# Altium schematic symbol library active.SchLib: 46 symbols
Pins are listed as number, name and electrical type; pins without a type are passive.

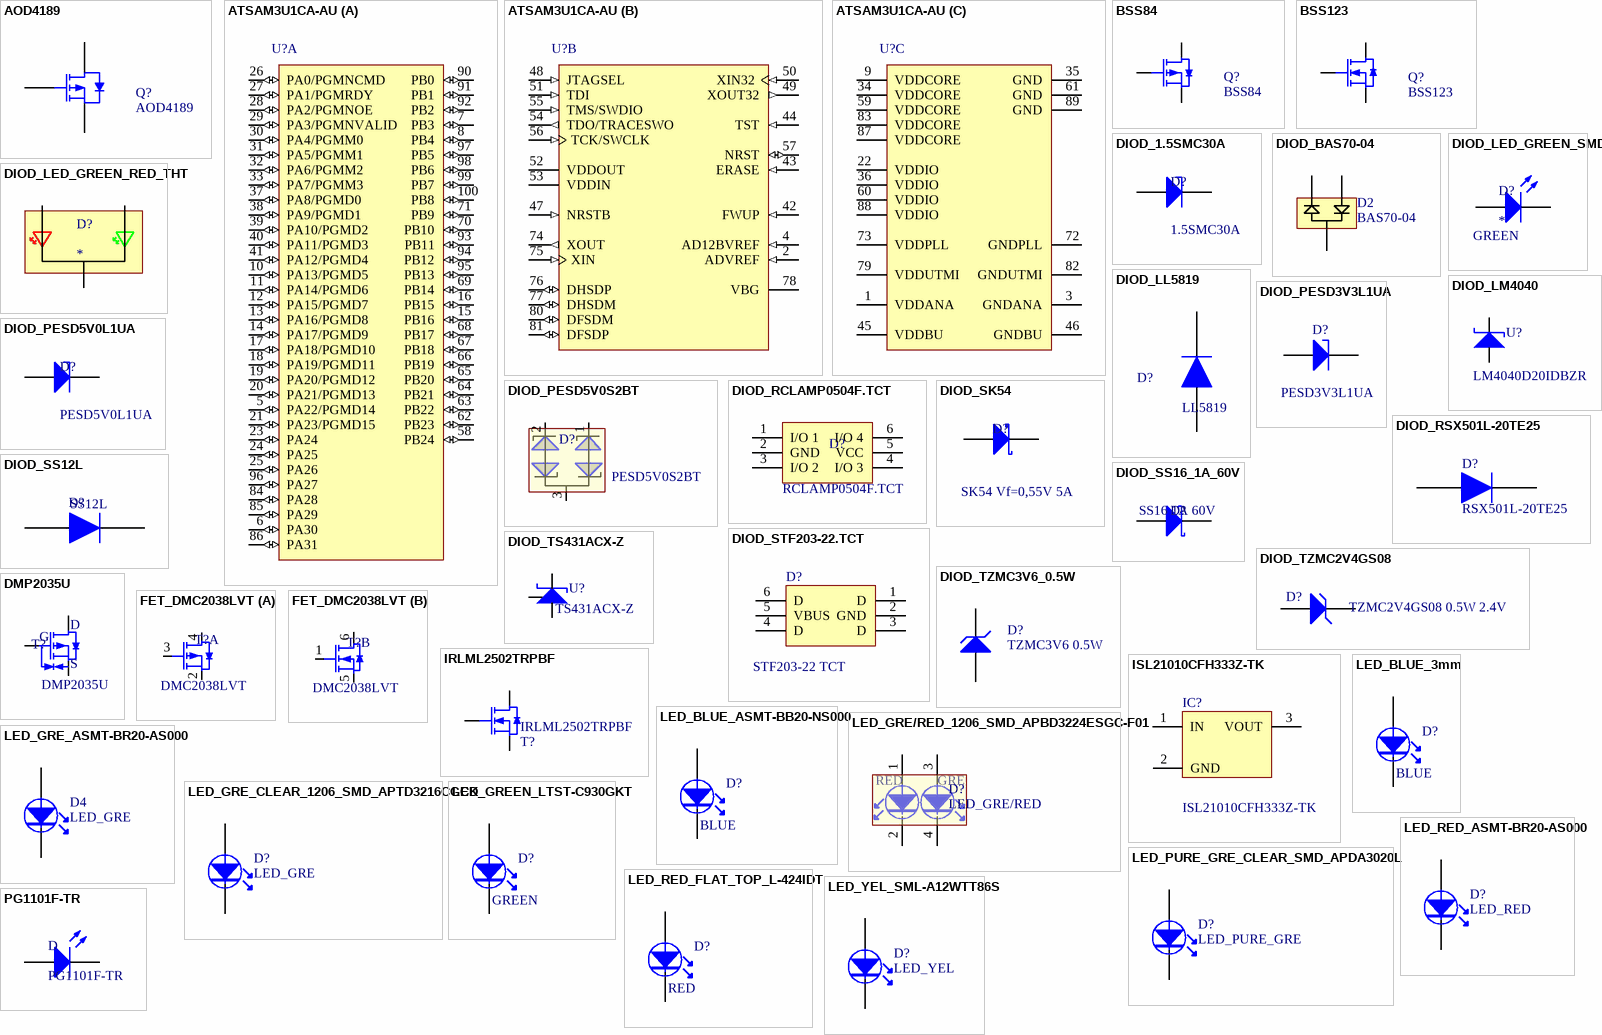
[diagram p0: symbols AOD4189 to PG1101F-TR]

## AOD4189
designator Q?
AOD4189 MOSFET P CH 40V 40A TO252; Order ID: 785-1351-1-ND; Distributor: Digikey; Price: 138; Value: AOD4189
footprint TO-252 (D-PAK/TO-252-AA; 3 Leads (1 Cropped); Body 10.1 (inc. leads) x 6.6 mm (LxW max))
pins: 1 G, 3 S, 4 D

## ATSAM3U1CA-AU
designator U?
AT91 ARM Cortex-M3 32-bit Microcontroller, 64KB Flash, 20KB SRAM, 57 User I/Os, 3USARTs, 100-Pin LQFP, Industrial Grade (-40°C to 85°C), Pb-Free; Published: 20-Sep-2010; DatasheetVersion: revC, Apr-2010; PackageVersion: Apr-2006; PackageReference: LQFP100; Publisher: Altium Limited; PackageDescription: 100-Pin Thin Quad Flat Pack 0.5 mm Pitch; Supplier 1: Digi-Key; Supplier Part Number 1: ATSAM3U1CA-AU-ND; Supplier 2: Mouser; Supplier Part Number 2: 556-ATSAM3U1CA-AU; Code_JEDEC: MS-026-BED; ComponentLink1Description: Manufacturer Link; ComponentLink1URL: http://www.atmel.com/products/AT91/default.asp?; ComponentLink2Description: SAM3U Series Datasheet; ComponentLink2URL: http://www.atmel.com/dyn/resources/prod_documents/doc6430.pdf; ComponentLink3Description: SAM3U Series Summary; ComponentLink3URL: http://www.atmel.com/dyn/resources/prod_documents/6430s.pdf; ComponentLink4Description: Atmel.com Home; ComponentLink4URL: http://www.atmel.com
footprint LQFP100_N (Thin QFP, 100-Leads, Body 14x14mm, Pitch 0.5mm, IPC Medium Density)
footprint LQFP100_L (Thin QFP, 100-Leads, Body 14x14mm, Pitch 0.5mm, IPC High Density)
footprint LQFP100_M (Thin QFP, 100-Leads, Body 14x14mm, Pitch 0.5mm, IPC Low Density)
part A pins: 5 PA22/PGMD14 (io), 6 PA30 (io), 7 PB3 (io), 8 PB4 (io), 10 PA13/PGMD5 (io), 11 PA14/PGMD6 (io), 12 PA15/PGMD7 (io), 13 PA16/PGMD8 (io), 14 PA17/PGMD9 (io), 15 PB16 (io), 16 PB15 (io), 17 PA18/PGMD10 (io), 18 PA19/PGMD11 (io), 19 PA20/PGMD12 (io), 20 PA21/PGMD13 (io), 21 PA23/PGMD15 (io), 23 PA24 (io), 24 PA25 (io), 25 PA26 (io), 26 PA0/PGMNCMD (io), 27 PA1/PGMRDY (io), 28 PA2/PGMNOE (io), 29 PA3/PGMNVALID (io), 30 PA4/PGMM0 (io), 31 PA5/PGMM1 (io), 32 PA6/PGMM2 (io), 33 PA7/PGMM3 (io), 37 PA8/PGMD0 (io), 38 PA9/PGMD1 (io), 39 PA10/PGMD2 (io), 40 PA11/PGMD3 (io), 41 PA12/PGMD4 (io), 58 PB24 (io), 62 PB23 (io), 63 PB22 (io), 64 PB21 (io), 65 PB20 (io), 66 PB19 (io), 67 PB18 (io), 68 PB17 (io), 69 PB14 (io), 70 PB10 (io), 71 PB9 (io), 84 PA28 (io), 85 PA29 (io), 86 PA31 (io), 90 PB0 (io), 91 PB1 (io), 92 PB2 (io), 93 PB11 (io), 94 PB12 (io), 95 PB13 (io), 96 PA27 (io), 97 PB5 (io), 98 PB6 (io), 99 PB7 (io), 100 PB8 (io)
part B pins: 2 ADVREF (in), 4 AD12BVREF (in), 42 FWUP (in), 43 ERASE (in), 44 TST (in), 47 NRSTB (in), 48 JTAGSEL (in), 49 XOUT32 (out), 50 XIN32 (in), 51 TDI (in), 52 VDDOUT (power), 53 VDDIN (power), 54 TDO/TRACESWO (out), 55 TMS/SWDIO (in), 56 TCK/SWCLK (in), 57 NRST (io), 74 XOUT (out), 75 XIN (in), 76 DHSDP (io), 77 DHSDM (io), 78 VBG, 80 DFSDM (io), 81 DFSDP (io)
part C pins: 1 VDDANA (power), 3 GNDANA (power), 9 VDDCORE (power), 22 VDDIO (power), 34 VDDCORE (power), 35 GND (power), 36 VDDIO (power), 45 VDDBU (power), 46 GNDBU (power), 59 VDDCORE (power), 60 VDDIO (power), 61 GND (power), 72 GNDPLL (power), 73 VDDPLL (power), 79 VDDUTMI (power), 82 GNDUTMI (power), 83 VDDCORE (power), 87 VDDCORE (power), 88 VDDIO (power), 89 GND (power)

## BSS84
designator Q?
BSS84 (PJT) P-FET 50V 0.13A <10R SOT-23 ˝84L˝ [86-03-04]; Distributor: Lomex; Order ID: 86-03-04; Price: 5,9; Value: BSS84
footprint SOT23
pins: 1 G, 2 S, 3 D
2 alternate drawings of the same symbol

## BSS123
designator Q?
BSS123 (FAI) N-FET 100V 0.17A <6R SOT-23 ˝SA˝ [86-03-28]; Distributor: Lomex; Order ID: 86-03-28; Price: 7; Value: BSS123
footprint SOT23
pins: 1 G, 2 S, 3 D
2 alternate drawings of the same symbol

## DIOD_1.5SMC30A
designator D?, comment 1.5SMC30A
30.0V Ubr 1500W UNIDIR. 25.6V Urwm 1.5SMC30A (LFS) DO-214AB (SMC) ˝30A˝ [96-00-88]; Distributor: Lomex; Order ID: 96-00-88; Price: 42.65; Value: 1.5SMC30A
footprint SMC-DO214AB
pins: 1 A, 2 K
2 alternate drawings of the same symbol

## DIOD_BAS70-04
designator D2  value BAS70-04  (hidden comment: *)
0.07A 70V SOT-23 SCH.BARR. DUAL BAS70-04 (TSC) ˝74˝ SER. [83-02-00]; Distributor: Lomex; Price: 3.95; Order ID: 83-02-00
footprint SOT23
pins: 1, 2, 3

## DIOD_LED_GREEN_RED_THT
designator D?
D= 5 RED/GRE BICOL. (3-PIN) L-59EGW (KIN) WH.DIFF.60/50mcd (HH5) 60° COM.CAT.; Value: RED_GREEN_LED; Distributor: LOMEX; Order ID: 34-01-06; Price: 29.72
footprint HDR1X3 (Header, Vertical, with Friction Lock)
pins: 1, 2, 3

## DIOD_LED_GREEN_SMD
designator D?  value GREEN
1206 GRE 15mcd KP-3216SGC (KIN) W.CLEAR 3.2x1.6mm 120° 565nm; Distributor: LOMEX; Order ID: 95-02-36; Price: 9.45
footprint LED_SMD[1206] (SMD LED, Body 3.2x1.6mm [LxW])
pins: 1 A, 2 K

## DIOD_LL5819
designator D?, comment LL5819
1A 40V DO-213AB SCH.RECT. LL5819 (YET) MELF [83-02-43]; Distributor: Lomex; Order ID: 83-02-43; Price: 10; Value: LL5819
footprint DIODE_SMT_45_26_2MM
footprint SMA
footprint MELF
pins: 1 A, 2 K

## DIOD_LM4040
designator U?  value LM4040D20IDBZR  (hidden comment: *)
LM4040 IC VREF SHUNT PREC 2.048V SOT23; Order ID: 296-20899-1-ND; Distributor: Digikey; Price: 158.00
footprint SOT23
pins: 1 "Cathode", 2 1 "Anode", 3 1 hidden "Anode (substrate)"

## DIOD_PESD3V3L1UA
designator D?  value PESD3V3L1UA  (hidden comment: *)
NXP - PESD3V3L1UA - DIODE, ESD, LOW CAPACITANCE, SOD323; Order ID: 2069356; Distributor: Farnell; Price: 50.43
footprint SOD-323 (SOD-323/SC-76; 2 Leads; Body 1.7 x 1.3 mm, (LxW))
pins: 1 A, 2 K
2 alternate drawings of the same symbol

## DIOD_PESD5V0L1UA
designator D?, comment PESD5V0L1UA
NXP - PESD5V0L1UA - DIODE, ESD, LOW CAPACITANCE, SOD323; Order ID: 2069359; Distributor: Farnell; Price: 50.43; Value: PESD5V0L1UA
footprint SOD-323 (SOD-323/SC-76; 2 Leads; Body 1.7 x 1.3 mm, (LxW))
pins: 1 A, 2 K
2 alternate drawings of the same symbol

## DIOD_PESD5V0S2BT
designator D?  value PESD5V0S2BT
7.5V Ubr 130W BIDIR 5V Urwm PESD5V0S2BT (NXP) SOT-23 [96-00-55]; Distributor: Lomex; Order ID: 96-00-55; Price: 20.43
footprint SOT23
pins: 1 C1, 2 C2, 3 Common

## DIOD_RCLAMP0504F.TCT
designator D?  value RCLAMP0504F.TCT
SEMTECH - RCLAMP0504F.TCT - DIODE, TVS, 5V; Order ID: RCLAMP0504FCT-ND; Distributor: Digikey; Price: 180
footprint SC70-6
pins: 1 I/O 1, 2 GND, 3 I/O 2, 4 I/O 3, 5 VCC, 6 I/O 4
2 alternate drawings of the same symbol

## DIOD_RSX501L-20TE25
designator D?, comment RSX501L-20TE25
DIODE SCHOTTKY 20V 5A PMDS; Order ID: RSX501L-20TE25CT-ND; Distributor: Digikey; Price: 46; Value: RSX501L-20TE25
footprint SMA (Diod case 1.9x2.9x1.43mm.)
pins: 1 A, 2 K

## DIOD_SK54
designator D?  value SK54 Vf=0,55V 5A  (hidden comment: DIOD_SK54)
5A 40V DO-214AB SCH.RECT. SK54 (PJT) SMC [83-01-15]; Distributor: Lomex; Order ID: 83-01-15; Price: 44
footprint SMC-DO214AB
pins: 1 A, 2 K

## DIOD_SS12L
designator D?  value SS12L  (hidden comment: *)
1A 20V SCH.RECT.LOW Vf SS12L (TSC) SUB SMA [83-01-27]; Distributor: Lomex; Order ID: 83-01-27; Price: 10.45
footprint SMA (Diod case 1.9x2.9x1.43mm.)
pins: 1 A, 2 K

## DIOD_SS16_1A_60V
designator D?, comment SS16 1A 60V
1A 60V DO-214AC SCH.RECT. SS16 (TSC) SMA [83-01-77]; Distributor: Lomex; Order ID: 83-01-77; Price: 5.9; Value: SS16 1A 60V
footprint SMA (Diod case 1.9x2.9x1.43mm.)
simulation model SKYDIODE (Diode)
signal-integrity model D Schottky
pins: 1 A, 2 K

## DIOD_STF203-22.TCT
designator D?  value STF203-22 TCT
SEMTECH - STF203-22.TCT - DIODE ARRAY, TVS, 5.25V; Order ID: 1456419; Distributor: Farnell; Price: 163
footprint SC70-6
pins: 1 D, 2 GND, 3 D, 4 D, 5 VBUS, 6 D

## DIOD_TS431ACX-Z
designator U?  value TS431ACX-Z  (hidden comment: DIOD_TS431ACX-Z)
TS431ACX-Z (TSC) ADJUSTABLE VOLT.REF. PREC.SHUNT REGULATOR SOT-23 -REVERSE [89-23-05]; Distributor: Lomex; Order ID: 89-23-05; Price: 12.5
footprint SOT23
pins: 1 "Cathode", 2 "Anode", 3 1 hidden "Anode (substrate)", 3 "Anode"

## DIOD_TZMC2V4GS08
designator D?, comment TZMC2V4GS08 0.5W 2.4V
2.4 V 0.5 W TZMC2V4GS08 (VIS) SOD-80 MINIMELF [85-00-26]; Distributor: Lomex; Order ID: 85-00-26; Price: 4.29; Value: TZMC2V4GS08 0.5W 2.4V
footprint MELF - AK
footprint SOD80 (Diod case 1.6x3.7mm.)
pins: 1 A, 2 K
2 alternate drawings of the same symbol

## DIOD_TZMC3V6_0.5W
designator D?, comment TZMC3V6 0.5W
3.6 V 0.5 W TZMC3V6-GS08 (VIS) SOD-80 MINIMELF [85-00-76]; Distributor: Lomex; Order ID: 85-00-76; Price: 4; Value: TZMC3V6 0.5W
footprint SOD80 (Diod case 1.6x3.7mm.)
pins: 1 A, 2 K
2 alternate drawings of the same symbol

## DMP2035U
designator T?
DIODES INC. - DMP2035U - MOSFET, P CH, ESD,-20V,-3.6A, SOT23; Order ID: 2061419; Value: DMP2035U; Distributor: Farnell; Price: 97
footprint SOT23
pins: 1 G, 2 S, 3 D

## FET_DMC2038LVT
designator T?  value DMC2038LVT  (hidden comment: FET_DMC2038LVT)
MOSFET N/P-CH 20V TSOT26; Order ID: DMC2038LVT-7DICT-ND; Distributor: Digikey; Price: 60
footprint SOT23-6
part A pins: 2 S, 3 G, 4 D
part B pins: 1 G, 5 S, 6 D

## IRLML2502TRPBF
designator T?
IRLML2502TRPBF (IR) N-POWERFET 20V 4.2A Rds<0.045R SOT-23 [86-03-33]; Distributor: Lomex; Order ID: 86-03-33; Price: 25; Value: IRLML2502TRPBF
footprint SOT23
pins: 1 G, 2 S, 3 D

## ISL21010CFH333Z-TK
designator IC?
INTERSIL  ISL21010CFH333Z-TK  VOLT REF, 3.3V, +/-0.2%, 50PPM, 3-SOT23; Order ID: 2358137; Distributor: Farnell; Price: 200; Value: ISL21010CFH333Z-TK
footprint SOT23
pins: 1 IN, 2 GND, 3 VOUT

## LED_BLUE_3mm
designator D?  value BLUE  (hidden comment: LED_BLUE_3mm)
D= 3 BLUE SUP.BR. L-7104QBDL-D (KIN) BLU.DIFF. 1200mcd 468nm 30° [34-06-25]; Distributor: Lomex; Order ID: 34-06-25; Price: 29
footprint LED_3MM_BENDED (THD 3mm led footprint.)
pins: A 1, K 2

## LED_BLUE_ASMT-BB20-NS000
designator D?, comment value BLUE  (hidden comment: LED BLUE BB20-NS000)
LED BLUE CLEAR 1209 SMD; Order ID: 516-2672-1-ND; Distributor: Digikey; Price: 150
footprint LED_SMT_3.2_2.4_SMT_1209 (SMT LED leds, W2.4mm,L3.2mm, H2.4mm.)
pins: A 1, K 2

## LED_GRE/RED_1206_SMD_APBD3224ESGC-F01
designator D?, comment LED_GRE/RED
AVAGO TECHNOLOGIES - ASMT-BG20-AS000 - LED, SMD, GREEN, 0.65CD, 569NM; Order ID: 754-1076-1-ND; Distributor: Digikey; Price: 75; Value: GRE/RED
footprint Kingbright_DUAL_3.2_2.4_SMT_1210 (Kingbright leds, W2.4mm,L3.2mm, H2.4mm.)
pins: 1, 2, 3, 4
text: RED; GRE

## LED_GRE_ASMT-BR20-AS000
designator D4, comment LED_GRE
AVAGO TECHNOLOGIES - ASMT-BG20-AS000 - LED, SMD, GREEN, 0.65CD, 569NM; Order ID: 1603886; Distributor: Farnell; Price: 46; Value: GREEN
footprint AVAGO_LEDS (Avago leds, W2.4mm,L3.2mm, H2.4mm.)
pins: A 1, K 2

## LED_GRE_CLEAR_1206_SMD_APTD3216CGCK
designator D?, comment LED_GRE
AVAGO TECHNOLOGIES - ASMT-BG20-AS000 - LED, SMD, GREEN, 0.65CD, 569NM; Order ID: 754-1152-1-ND; Distributor: Digikey; Price: 75; Value: GREEN
footprint Kingbright_3.2_1.6_SMT (Kingbright leds, W1.6mm,L3.2mm, H1.8mm.)
pins: A 1, K 2

## LED_GREEN_LTST-C930GKT
designator D?, comment value GREEN  (hidden comment: LED GREEN LTST-C930GKT)
LED GREEN CLEAR 1209 SMD; Order ID: 160-1212-6-ND; Distributor: Digikey; Price: 150
footprint LED_SMT_3.2_2.4_SMT_1209 (SMT LED leds, W2.4mm,L3.2mm, H2.4mm.)
pins: A 1, K 2

## LED_PURE_GRE_CLEAR_SMD_APDA3020LZGCK
designator D?, comment LED_PURE_GRE
AVAGO TECHNOLOGIES - ASMT-BG20-AS000 - LED, SMD, GREEN, 0.65CD, 569NM; Order ID: 754-1929-1-ND; Value: PURE GREEN; Distributor: Digikey; Price: 100
footprint Kingbright_3_2_SMT (Kingbright leds, W2mm,L3mm, H2.8mm.)
pins: A 1, K 2

## LED_RED_ASMT-BR20-AS000
designator D?, comment LED_RED
AVAGO TECHNOLOGIES - ASMT-BR20-AS000 - LED, SMD, RED; Order ID: 1603888; Distributor: Farnell; Price: 46; Value: RED
footprint AVAGO_LEDS (Avago leds, W2.4mm,L3.2mm, H2.4mm.)
pins: A 1, K 2

## LED_RED_FLAT_TOP_L-424IDT
designator D?  value RED  (hidden comment: LED_RED_FLAT_TOP_L-424IDT)
D= 3 RED FLAT TOP L-424IDT (KIN) RED DIFF. 5mcd 625nm 100° [34-00-98]; Distributor: Lomex; Order ID: 34-00-98; Price: 14
footprint LED_3MM_BENDED (THD 3mm led footprint.)
pins: A 1, K 2

## LED_YEL_SML-A12WTT86S
designator D?, comment LED_YEL
ROHM - SML-A12WTT86S - LED, 0605, SIDE VIEW, HB YLW; Order ID: 1685092; Distributor: Farnell; Price: 145; Value: SML-A12WTT86S
footprint 0605-Sideview-led (Standing style led footprint.)
pins: A 1, K 2

## PG1101F-TR
designator D
LED GREEN CLEAR 1208 R/A SMD; Manufacturer: Stanley Electric Co; Lens Color: Colorless; Millicandela Rating: 5.2mcd; Lens Style/Size: Rectangle with Domed Top, 2.00mm x 1.00mm; Voltage - Forward (Vf) (Typ): 2.1V; Current - Test: 20mA; Viewing Angle: 149°, 130°; Wavelength - Dominant: 567nm; Wavelength - Peak: 560nm; Order Code: 404-1067-1-ND; Supplier 1: Digi-Key; Manufacturer Part Number: PG1101F-TR; RoHS: RoHS Compliant; Category: Optoelectronics; Stock 1: 11018; Pricing 1: 1=0.54, 10=0.383, 25=0.3148, 100=0.2517, 250=0.18876, 1000=0.13728 (USD); Packaging: Cut Tape (CT); Color: Green; Lens Transparency: Clear; Mounting Type: Surface Mount, Right Angle; Features: -; Package / Case: 2-SMD, No Lead; Supplier Device Package: 2-SMD; Size / Dimension: 3.00mm L x 2.00mm W; Height (Max): 1.00mm; ComponentLink1URL: http://media.digikey.com/pdf/Data%20Sheets/Stanley%20Electric%20PDFs/1101F_Series.pdf; ComponentLink1Description: http://media.digikey.com/pdf/Data%20Sheets/Stanley%20Electric%20PDFs/1101F_Series.pdf
footprint PG1101F
pins: 1 K, 2 A

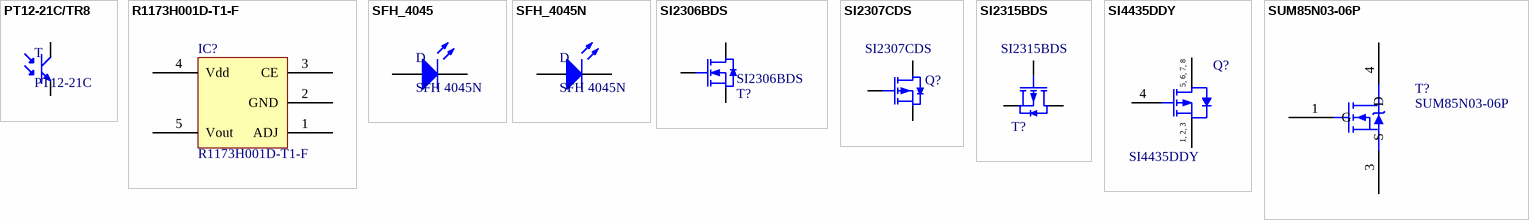
[diagram p1: symbols PT12-21C/TR8 to SUM85N03-06P]

## PT12-21C/TR8
designator T, comment PT12-21C
PHOTOTRANSISTOR WATER CLR RA SMD; Manufacturer: Everlight Electronics Co Ltd; Manufacturer Part Number: PT12-21C/TR8; Voltage - Collector Emitter Breakdown (Max): 30V; Current - Collector (Ic) (Max): 50mA; Current - Dark (Id) (Max): 100nA; Wavelength: 940nm; Power - Max: 75mW; Supplier 1: Digi-Key; RoHS: RoHS Compliant; Category: Sensors, Transducers; Stock 1: 50299; Pricing 1: 1=0.39, 10=0.282, 100=0.1659, 250=0.11736, 500=0.10016, 1000=0.07825 (USD); Viewing Angle: -; Mounting Type: Surface Mount, Right Angle; Orientation: Side View; Package / Case: 2-SMD, No Lead; ComponentLink1URL: http://www.everlight.com/file/ProductFile/PT12-21C-TR8.pdf; ComponentLink1Description: http://www.everlight.com/file/ProductFile/PT12-21C-TR8.pdf
footprint PTran_side
pins: 1 C, 2 E

## R1173H001D-T1-F
designator IC?
Super low on resistance/Low voltage LDO; Distributor: Chipcad; Order ID: R1173H001D-T1-F; Price: 158; Value: R1173H001D
footprint SOT-89-5
pins: 1 ADJ, 2 GND, 3 CE, 4 Vdd, 5 Vout

## SFH_4045
designator D, comment SFH 4045N
SFH 4045N High Power Infrared Emitter (940 nm)
footprint 1506_LED_ANGLE
pins: 1 K, 2 A

## SFH_4045N
designator D, comment SFH 4045N
SFH 4045N High Power Infrared Emitter (940 nm); Order ID: 475-3047-1-ND; Value: 940 nm; Angle: 5°; Distributor: Digikey; Price: 0.97 USD
footprint 1506_LED_ANGLE
pins: 1 K, 2 A

## SI2306BDS
designator T?
SI2306BDS-T1-E3 (VIS) N-POWERFET 30V 4A Rds=0.047R SOT-23 [86-01-57]; Distributor: Lomex; Order ID: 86-01-57; Price: 57; Value: SI2306BDS
footprint SOT23
pins: 1 G, 2 S, 3 D

## SI2307CDS
designator Q?  value SI2307CDS  (hidden comment: *)
SI2307CDS-T1-GE3 (VIS) P-POWERFET 30V 2.7A Rds=0.088R SOT-23 [86-03-40]; Distributor: Lomex; Order ID: 86-03-40; Price: 30.60
footprint SOT23
pins: 1 G, 2 S, 3 D

## SI2315BDS
designator T?
SI2315BDS-T1-E3 (VIS) P-POWERFET 12V 3A Rds=0.04R SOT-23 [86-02-81]; Distributor: Lomex; Order ID: 86-02-81; Price: 56.38; Value: SI2315BDS
footprint SOT23
pins: 1 G, 2 S, 3 D

## SI4435DDY
designator Q?
SI4435DDY-GE3 (VIS) P-POWERFET 30V 11.4A 5W <0.024R -55+150°C SO-8 [86-01-63]; Distributor: Lomex; Order ID: 86-01-63; Price: 63; Value: SI4435DDY
footprint SO-8_N (8-Pin Small Outline Integrated Circuit 1.27 mm Pitch, IPC Medium Density)
pins: 1 S, 2 S, 3 S, 4 G, 5 D, 6 D, 7 D, 8 D
text: 5, 6, 7, 8; 1, 2, 3

## SUM85N03-06P
designator T?
SUM85N03-06P (VIS) N-POWERFET 30V 85A 100W Rds=0.006R D2PAK TO-263 ł [86-03-03]; Value: SUM85N03-06P; Distributor: Lomex; Order ID: 86-03-03; Price: 162
footprint D2PAK
pins: 1 G, 3 S, 4 D